# Altium schematic symbol library LAN8841-VQ2A.SchLib: 1 symbol
Pins are listed as number, name and electrical type; pins without a type are passive.

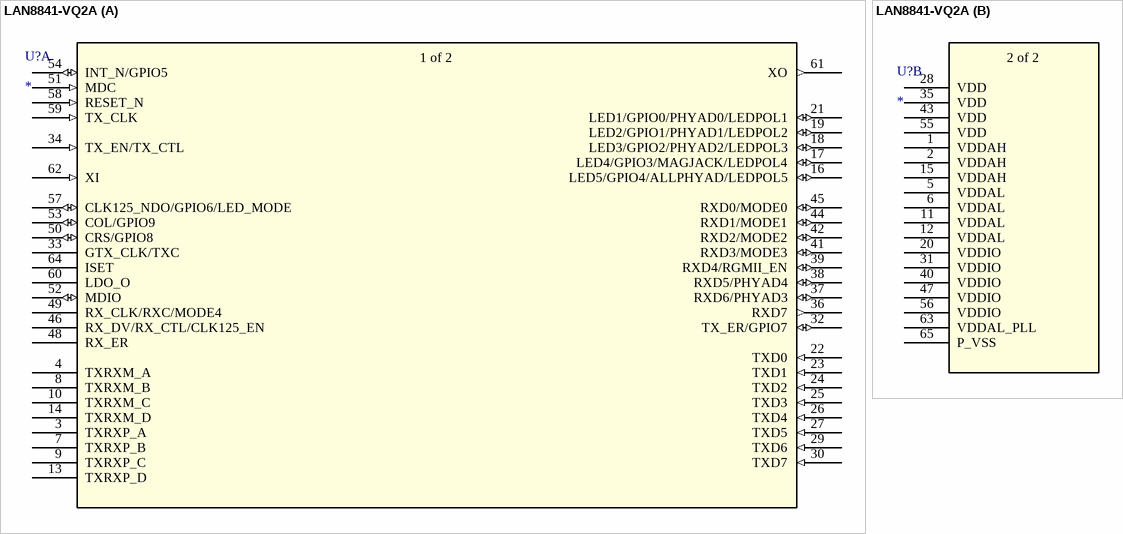
[diagram p0: symbol LAN8841-VQ2A]

## LAN8841-VQ2A
designator U?
No Description Available; Mfr_Name: Microchip; Type: Interface; RefDes: RefDes
footprint VQFN64_Q2A_6p5EP_MCH
part A pins: 3 TXRXP_A, 4 TXRXM_A, 7 TXRXP_B, 8 TXRXM_B, 9 TXRXP_C, 10 TXRXM_C, 13 TXRXP_D, 14 TXRXM_D, 16 LED5/GPIO4/ALLPHYAD/LEDPOL5 (io), 17 LED4/GPIO3/MAGJACK/LEDPOL4 (io), 18 LED3/GPIO2/PHYAD2/LEDPOL3 (io), 19 LED2/GPIO1/PHYAD1/LEDPOL2 (io), 21 LED1/GPIO0/PHYAD0/LEDPOL1 (io), 22 TXD0 (in), 23 TXD1 (in), 24 TXD2 (in), 25 TXD3 (in), 26 TXD4 (in), 27 TXD5 (in), 29 TXD6 (in), 30 TXD7 (in), 32 TX_ER/GPIO7 (io), 33 GTX_CLK/TXC, 34 TX_EN/TX_CTL (in), 36 RXD7 (out), 37 RXD6/PHYAD3 (io), 38 RXD5/PHYAD4 (io), 39 RXD4/RGMII_EN (io), 41 RXD3/MODE3 (io), 42 RXD2/MODE2 (io), 44 RXD1/MODE1 (io), 45 RXD0/MODE0 (io), 46 RX_DV/RX_CTL/CLK125_EN, 48 RX_ER, 49 RX_CLK/RXC/MODE4, 50 CRS/GPIO8 (io), 51 MDC (in), 52 MDIO (io), 53 COL/GPIO9 (io), 54 INT_N/GPIO5 (io), 57 CLK125_NDO/GPIO6/LED_MODE (io), 58 RESET_N (in), 59 TX_CLK (in), 60 LDO_O, 61 XO (out), 62 XI (in), 64 ISET
part B pins: 1 VDDAH (power), 2 VDDAH (power), 5 VDDAL (power), 6 VDDAL (power), 11 VDDAL (power), 12 VDDAL (power), 15 VDDAH (power), 20 VDDIO (power), 28 VDD (power), 31 VDDIO (power), 35 VDD (power), 40 VDDIO (power), 43 VDD (power), 47 VDDIO (power), 55 VDD (power), 56 VDDIO (power), 63 VDDAL_PLL (power), 65 P_VSS (power)
part A text: 1 of 2
part B text: 2 of 2